# EAGLE library part PORT_BOARD (library stack_interface)
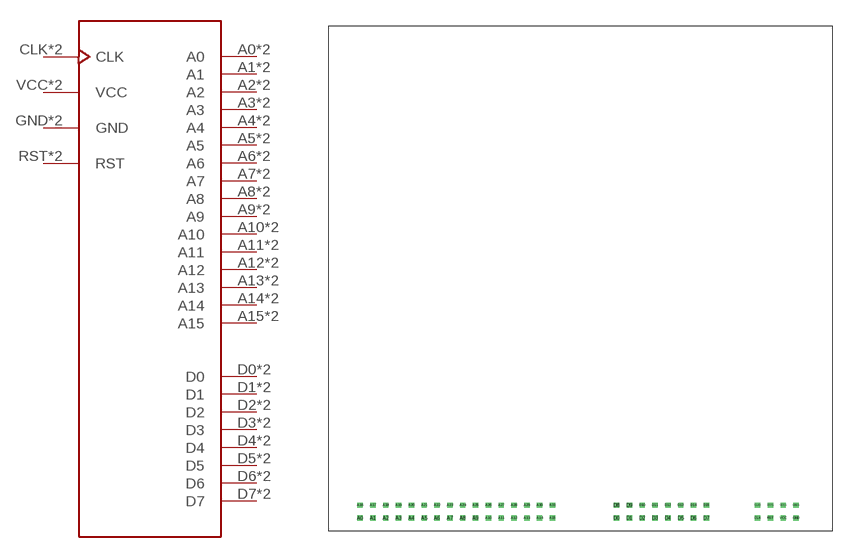
[diagram p0: symbol with the pads of PORT_FOOTPT; footprint PORT_FOOTPT]

Designator prefix -

## PORT_BOARD  [PORT_FOOTPT]
A0  A0
A1  A1
A2  A2
A3  A3
A4  A4
A5  A5
A6  A6
A7  A7
A8  A8
A9  A9
A10  A10
A11  A11
A12  A12
A13  A13
A14  A14
A15  A15
A16  A0
A17  A1
A18  A2
A19  A3
A20  A4
A21  A5
A22  A6
A23  A7
A24  A8
A25  A9
A26  A10
A27  A11
A28  A12
A29  A13
A30  A14
A31  A15
CLK  CLK
CLK1  CLK
D0  D0
D1  D1
D2  D2
D3  D3
D4  D4
D5  D5
D6  D6
D7  D7
D8  D0
D9  D1
D10  D2
D11  D3
D12  D4
D13  D5
D14  D6
D15  D7
GND  GND  pwr
GND1  GND  pwr
RST  RST  in
RST1  RST  in
VCC  VCC  pwr
VCC1  VCC  pwr

## Footprint PORT_FOOTPT (pad centres in mm)
drill 0.55 square: A0 6.35,2.54; A1 8.89,2.54; A2 11.43,2.54; A3 13.97,2.54; A4 16.51,2.54; A5 19.05,2.54; A6 21.59,2.54; A7 24.13,2.54; A8 26.67,2.54; A9 29.21,2.54; A10 31.75,2.54; A11 34.29,2.54; A12 36.83,2.54; A13 39.37,2.54; A14 41.91,2.54; A15 44.45,2.54; A16 6.35,5.08; A17 8.89,5.08; A18 11.43,5.08; A19 13.97,5.08; A20 16.51,5.08; A21 19.05,5.08; A22 21.59,5.08; A23 24.13,5.08; A24 26.67,5.08; A25 29.21,5.08; A26 31.75,5.08; A27 34.29,5.08; A28 36.83,5.08; A29 39.37,5.08; A30 41.91,5.08; A31 44.45,5.08; CLK 85.09,2.54; CLK1 85.09,5.08; D0 57.15,2.54; D1 59.69,2.54; D2 62.23,2.54; D3 64.77,2.54; D4 67.31,2.54; D5 69.85,2.54; D6 72.39,2.54; D7 74.93,2.54; D8 57.15,5.08; D9 59.69,5.08; D10 62.23,5.08; D11 64.77,5.08; D12 67.31,5.08; D13 69.85,5.08; D14 72.39,5.08; D15 74.93,5.08; GND 92.71,2.54; GND1 92.71,5.08; RST 87.63,2.54; RST1 87.63,5.08; VCC 90.17,2.54; VCC1 90.17,5.08